# EAGLE library part DRV8850_RGY_24 (library drv8850)
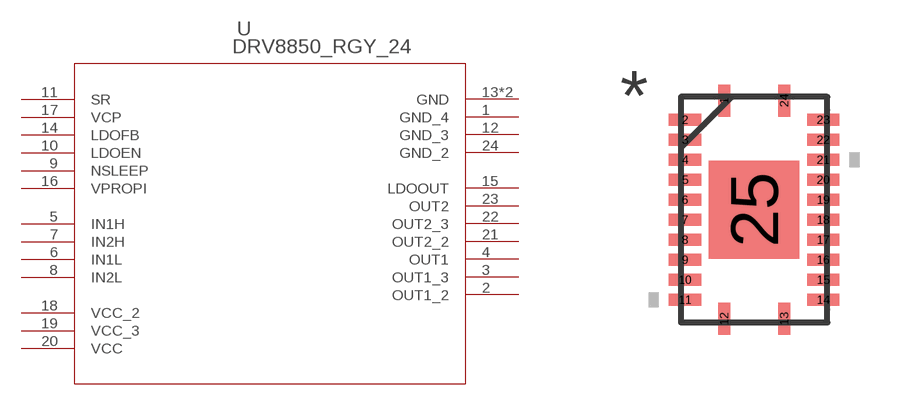
[diagram p0: symbol with the pads of RGY_24; footprint RGY_24]

Designator prefix U

## DRV8850_RGY_24 (MANUFACTURER_PART_NUMBER: drv8850_rgy_24; VENDOR: Texas Instruments)  [RGY_24]
1  GND_4  pwr
2  OUT1_2  out
3  OUT1_3  out
4  OUT1  out
5  IN1H  in
6  IN1L  in
7  IN2H  in
8  IN2L  in
9  NSLEEP  in
10  LDOEN  in
11  SR
12  GND_3  pwr
13  GND  pwr
14  LDOFB  in
15  LDOOUT  out
16  VPROPI  out
17  VCP  pas
18  VCC_2  pwr
19  VCC_3  pwr
20  VCC  pwr
21  OUT2_2  out
22  OUT2_3  out
23  OUT2  out
24  GND_2  pwr
25  GND  pwr

## Footprint RGY_24 (pad centres in mm)
smd 0.305 x 0.805: 1 -0.75,2.727; 12 -0.75,-2.727; 13 0.75,-2.727; 24 0.75,2.727
smd 0.805 x 0.305: 2 -1.727,2.25; 3 -1.727,1.75; 4 -1.727,1.25; 5 -1.727,0.75; 6 -1.727,0.25; 7 -1.727,-0.25; 8 -1.727,-0.75; 9 -1.727,-1.25; 10 -1.727,-1.75; 11 -1.727,-2.25; 14 1.727,-2.25; 15 1.727,-1.75; 16 1.727,-1.25; 17 1.727,-0.75; 18 1.727,-0.25; 19 1.727,0.25; 20 1.727,0.75; 21 1.727,1.25; 22 1.727,1.75; 23 1.727,2.25
smd 2.26 x 2.44: 25 0,0